# EAGLE library part 2X_ESQ-104-24-H-S__HMTSW-104-08-G-S-380 (library ssc_32u_power_board)
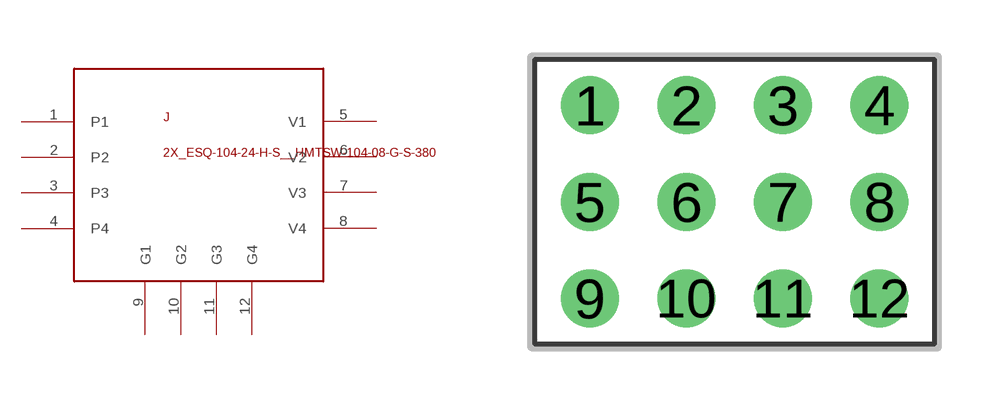
[diagram p1: symbol with the pads of 2X_ESQ-104-24-H-S__HMTSW-104-08-G-S-380; footprint 2X_ESQ-104-24-H-S__HMTSW-104-08-G-S-380]

Designator prefix J

## 2X_ESQ-104-24-H-S__HMTSW-104-08-G-S-380 (VALUE: 4x3_2.54MM_HEADER)  [2X_ESQ-104-24-H-S__HMTSW-104-08-G-S-380]
1  P1
2  P2
3  P3
4  P4
5  V1
6  V2
7  V3
8  V4
9  G1
10  G2
11  G3
12  G4

## Footprint 2X_ESQ-104-24-H-S__HMTSW-104-08-G-S-380 (pad centres in mm)
ELEVATED SOCKET, .100 inch(2.54mm) PITCH
drill 1.016 pad 1.524: 1 -3.81,2.54; 2 -1.27,2.54; 3 1.27,2.54; 4 3.81,2.54; 5 -3.81,0; 6 -1.27,0; 7 1.27,0; 8 3.81,0; 9 -3.81,-2.54; 10 -1.27,-2.54; 11 1.27,-2.54; 12 3.81,-2.54